# EAGLE library part 64600711622 (library Wire-to-Board)
WR-WTB 2.50mm Male Shrouded Header, 7 Pins=>Code : WR-WTB_Stiftleiste_m.V_64600711622 <http://katalog.we-online.de/media/thumbs2/eican/thb_WR-WTB_Stiftleiste_m.V_64600711622.jpg> Details see: http://katalog.we-online.de/en/em/646_0xx_116_22 Created 2014-06-05, Karrer Zheng 2014 (C) Würth Elektronik
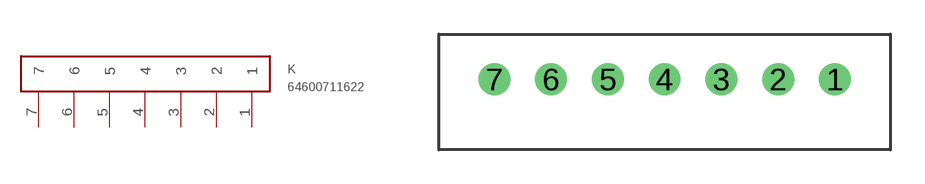
[diagram p23: symbol with the pads of 64600711622; footprint 64600711622]

Designator prefix K

## 64600711622  [64600711622]
1  1
2  2
3  3
4  4
5  5
6  6
7  7

## Footprint 64600711622 (pad centres in mm)
WR-WTB 2.50mm Male Shrouded Header, 7 Pins
drill 0.9: 1 1.25,0; 2 -1.25,0; 3 -3.75,0; 4 -6.25,0; 5 -8.75,0; 6 -11.25,0; 7 -13.75,0